# Altium footprint library SOT95P280X145-6N.PcbLib: 1 footprints
Each footprint in its own frame and in the unit in brackets; x right, y up, seen from the top. Pads: shape width x height; smd on the part's side, far side on the other; paste and mask are expansions set on the pad; w line width, h text height; cw(c..) or ccw(c..) is an arc to the next point about the centre after c.
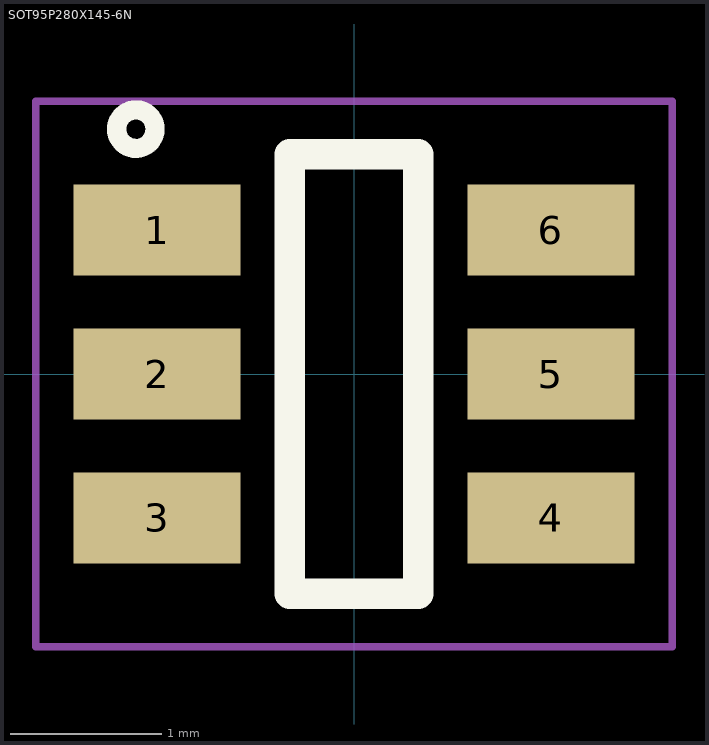
[diagram p0: the footprint, top view; thin cyan lines are the x and y axes]

## SOT95P280X145-6N [mm]
pads (6):
  rect 1.1x0.6 smd paste-25.4 mask-25.4: 1(-1.3,0.95) 2(-1.3,0) 3(-1.3,-0.95) 4(1.3,-0.95) 5(1.3,0) 6(1.3,0.95)
Top Overlay:
  circle w0.127: c-1.44,1.616 r0.127
  lines w0.2: -0.425,-1.45 -0.425,1.45 0.425,1.45 0.425,-1.45 -0.425,-1.45
Top Paste:
  region: 0.75,-0.3 1.85,-0.3 1.85,0.3 0.75,0.3
  region: 0.75,0.65 1.85,0.65 1.85,1.25 0.75,1.25
  region: 0.75,-1.25 1.85,-1.25 1.85,-0.65 0.75,-0.65
  region: -1.85,-1.25 -0.75,-1.25 -0.75,-0.65 -1.85,-0.65
  region: -1.85,-0.3 -0.75,-0.3 -0.75,0.3 -1.85,0.3
  region: -1.85,0.65 -0.75,0.65 -0.75,1.25 -1.85,1.25
Top Solder:
  region: 0.75,-0.3 1.85,-0.3 1.85,0.3 0.75,0.3
  region: 0.75,0.65 1.85,0.65 1.85,1.25 0.75,1.25
  region: 0.75,-1.25 1.85,-1.25 1.85,-0.65 0.75,-0.65
  region: -1.85,-1.25 -0.75,-1.25 -0.75,-0.65 -1.85,-0.65
  region: -1.85,-0.3 -0.75,-0.3 -0.75,0.3 -1.85,0.3
  region: -1.85,0.65 -0.75,0.65 -0.75,1.25 -1.85,1.25
Mechanical 1:
  lines w0.05: -2.1,-1.8 -2.1,1.8 2.1,1.8 2.1,-1.8 -2.1,-1.8